# Altium footprint library BGA_QFN_DFN_QFP_Footprints.PcbLib: 6 footprints
Each footprint in its own frame and in the unit in brackets; x right, y up, seen from the top. Pads: shape width x height; smd on the part's side, far side on the other; paste and mask are expansions set on the pad; w line width, h text height; cw(c..) or ccw(c..) is an arc to the next point about the centre after c.
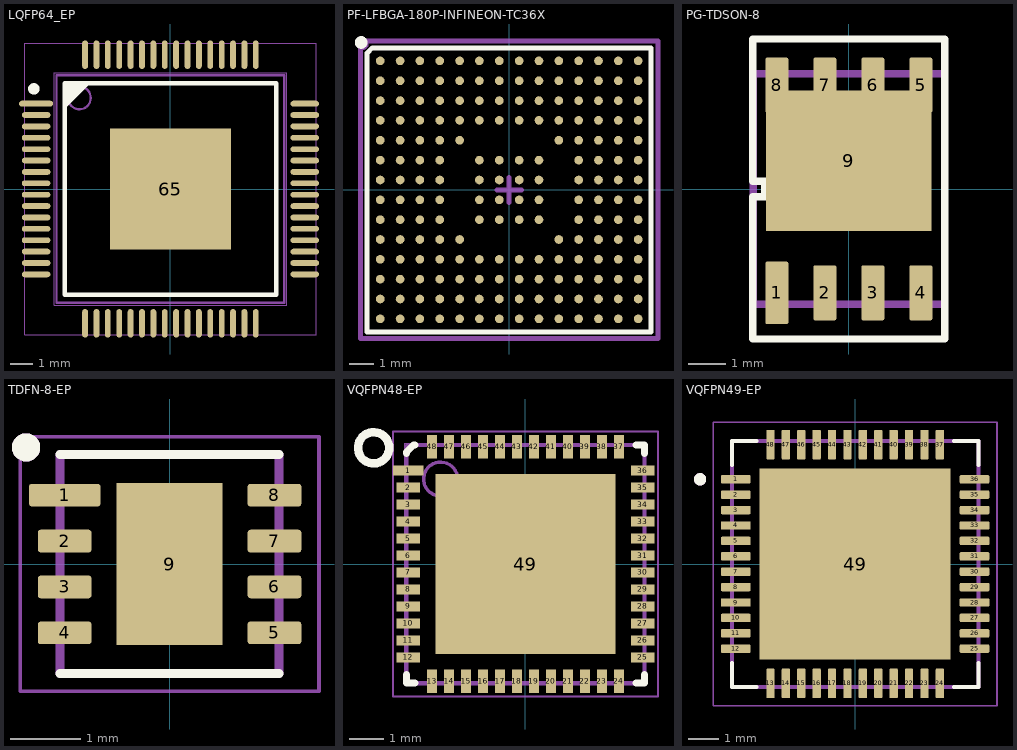
[diagram p0: the footprints below, top view; thin cyan lines are the x and y axes]

## LQFP64_EP [mm]
pads (65):
  oval 1.504x0.254 smd: 1(-5.9,3.75)
  oval 1.25x0.254 smd: 2(-5.9,3.25) 3(-5.9,2.75) 4(-5.9,2.25) 5(-5.9,1.75) 6(-5.9,1.25) 7(-5.9,0.75) 8(-5.9,0.25) 9(-5.9,-0.25) 10(-5.9,-0.75) 11(-5.9,-1.25) 12(-5.9,-1.75) 13(-5.9,-2.25) 14(-5.9,-2.75) 15(-5.9,-3.25) 16(-5.9,-3.75) 33(5.9,-3.75) 34(5.9,-3.25) 35(5.9,-2.75) 36(5.9,-2.25) 37(5.9,-1.75) 38(5.9,-1.25) 39(5.9,-0.75) 40(5.9,-0.25) 41(5.9,0.25) 42(5.9,0.75) 43(5.9,1.25) 44(5.9,1.75) 45(5.9,2.25) 46(5.9,2.75) 47(5.9,3.25) 48(5.9,3.75)
  oval 0.254x1.25 smd: 17(-3.75,-5.9) 18(-3.25,-5.9) 19(-2.75,-5.9) 20(-2.25,-5.9) 21(-1.75,-5.9) 22(-1.25,-5.9) 23(-0.75,-5.9) 24(-0.25,-5.9) 25(0.25,-5.9) 26(0.75,-5.9) 27(1.25,-5.9) 28(1.75,-5.9) 29(2.25,-5.9) 30(2.75,-5.9) 31(3.25,-5.9) 32(3.75,-5.9) 49(3.75,5.9) 50(3.25,5.9) 51(2.75,5.9) 52(2.25,5.9) 53(1.75,5.9) 54(1.25,5.9) 55(0.75,5.9) 56(0.25,5.9) 57(-0.25,5.9) 58(-0.75,5.9) 59(-1.25,5.9) 60(-1.75,5.9) 61(-2.25,5.9) 62(-2.75,5.9) 63(-3.25,5.9) 64(-3.75,5.9)
  rect 5.3x5.3 smd: 65(0,0)
Top Overlay:
  circle w0.25: c-6,4.4 r0.125
  lines w0.2: -4.65,3.65 -3.65,4.65 ; -4.65,3.85 -3.85,4.65 ; -4.65,4.05 -4.05,4.65 ; -4.65,4.25 -4.25,4.65 ; -4.65,4.45 -4.45,4.65 ; -4.65,-4.65 -4.65,4.65 4.65,4.65 4.65,-4.65 -4.65,-4.65
Top Paste:
  region: -2,-2 -2,-0.32 -0.32,-0.32 -0.32,-2
  region: 0.32,-2 0.32,-0.32 2,-0.32 2,-2
  region: -2,0.32 -2,2 -0.32,2 -0.32,0.32
  region: 0.32,0.32 0.32,2 2,2 2,0.32
Top Assembly (Mech3):
  circle w0.1: c-4,4 r0.5
  lines w0.1: -5,-5 -5,5 5,5 5,-5 -5,-5
Mechanical 16:
  circle w0.05: c0,0 r0.35
  lines w0.001: -5.1,-5.1 5.1,-5.1 5.1,5.1 -5.1,5.1 -5.1,-5.1
  lines w0.05: -0.5,0 0.5,0 ; 0,-0.5 0,0.5 ; -6.4,-6.4 6.4,-6.4 6.4,6.4 -6.4,6.4 -6.4,-6.4
3D body "LQFP-64-1EP_10x10mm_P0.5mm_EP6.5x6.5mm.step": height 1.5, standoff 0, extent -6,-6 6,6

## PF-LFBGA-180P-INFINEON-TC36X [mm]
pads (180):
  round 0.35 smd: A1(-5.2,5.2) A2(-4.4,5.2) A3(-3.6,5.2) A4(-2.8,5.2) A5(-2,5.2) A6(-1.2,5.2) A7(-0.4,5.2) A8(0.4,5.2) A9(1.2,5.2) A10(2,5.2) A11(2.8,5.2) A12(3.6,5.2) A13(4.4,5.2) A14(5.2,5.2) B1(-5.2,4.4) B2(-4.4,4.4) B3(-3.6,4.4) B4(-2.8,4.4) B5(-2,4.4) B6(-1.2,4.4) B7(-0.4,4.4) B8(0.4,4.4) B9(1.2,4.4) B10(2,4.4) B11(2.8,4.4) B12(3.6,4.4) B13(4.4,4.4) B14(5.2,4.4) C1(-5.2,3.6) C2(-4.4,3.6) C3(-3.6,3.6) C4(-2.8,3.6) C5(-2,3.6) C6(-1.2,3.6) C7(-0.4,3.6) C8(0.4,3.6) C9(1.2,3.6) C10(2,3.6) C11(2.8,3.6) C12(3.6,3.6) C13(4.4,3.6) C14(5.2,3.6) D1(-5.2,2.8) D2(-4.4,2.8) D3(-3.6,2.8) D4(-2.8,2.8) D5(-2,2.8) D6(-1.2,2.8) D7(-0.4,2.8) D8(0.4,2.8) D9(1.2,2.8) D10(2,2.8) D11(2.8,2.8) D12(3.6,2.8) D13(4.4,2.8) D14(5.2,2.8) E1(-5.2,2) E2(-4.4,2) E3(-3.6,2) E4(-2.8,2) E5(-2,2) E10(2,2) E11(2.8,2) E12(3.6,2) E13(4.4,2) E14(5.2,2) F1(-5.2,1.2) F2(-4.4,1.2) F3(-3.6,1.2) F4(-2.8,1.2) F6(-1.2,1.2) F7(-0.4,1.2) F8(0.4,1.2) F9(1.2,1.2) F11(2.8,1.2) F12(3.6,1.2) F13(4.4,1.2) F14(5.2,1.2) G1(-5.2,0.4) G2(-4.4,0.4) G3(-3.6,0.4) G4(-2.8,0.4) G6(-1.2,0.4) G7(-0.4,0.4) G8(0.4,0.4) G9(1.2,0.4) G11(2.8,0.4) G12(3.6,0.4) G13(4.4,0.4) G14(5.2,0.4) H1(-5.2,-0.4) H2(-4.4,-0.4) H3(-3.6,-0.4) H4(-2.8,-0.4) H6(-1.2,-0.4) H7(-0.4,-0.4) H8(0.4,-0.4) H9(1.2,-0.4) H11(2.8,-0.4) H12(3.6,-0.4) H13(4.4,-0.4) H14(5.2,-0.4) J1(-5.2,-1.2) J2(-4.4,-1.2) J3(-3.6,-1.2) J4(-2.8,-1.2) J6(-1.2,-1.2) J7(-0.4,-1.2) J8(0.4,-1.2) J9(1.2,-1.2) J11(2.8,-1.2) J12(3.6,-1.2) J13(4.4,-1.2) J14(5.2,-1.2) K1(-5.2,-2) K2(-4.4,-2) K3(-3.6,-2) K4(-2.8,-2) K5(-2,-2) K10(2,-2) K11(2.8,-2) K12(3.6,-2) K13(4.4,-2) K14(5.2,-2) L1(-5.2,-2.8) L2(-4.4,-2.8) L3(-3.6,-2.8) L4(-2.8,-2.8) L5(-2,-2.8) L6(-1.2,-2.8) L7(-0.4,-2.8) L8(0.4,-2.8) L9(1.2,-2.8) L10(2,-2.8) L11(2.8,-2.8) L12(3.6,-2.8) L13(4.4,-2.8) L14(5.2,-2.8) M1(-5.2,-3.6) M2(-4.4,-3.6) M3(-3.6,-3.6) M4(-2.8,-3.6) M5(-2,-3.6) M6(-1.2,-3.6) M7(-0.4,-3.6) M8(0.4,-3.6) M9(1.2,-3.6) M10(2,-3.6) M11(2.8,-3.6) M12(3.6,-3.6) M13(4.4,-3.6) M14(5.2,-3.6) N1(-5.2,-4.4) N2(-4.4,-4.4) N3(-3.6,-4.4) N4(-2.8,-4.4) N5(-2,-4.4) N6(-1.2,-4.4) N7(-0.4,-4.4) N8(0.4,-4.4) N9(1.2,-4.4) N10(2,-4.4) N11(2.8,-4.4) N12(3.6,-4.4) N13(4.4,-4.4) N14(5.2,-4.4) P1(-5.2,-5.2) P2(-4.4,-5.2) P3(-3.6,-5.2) P4(-2.8,-5.2) P5(-2,-5.2) P6(-1.2,-5.2) P7(-0.4,-5.2) P8(0.4,-5.2) P9(1.2,-5.2) P10(2,-5.2) P11(2.8,-5.2) P12(3.6,-5.2) P13(4.4,-5.2) P14(5.2,-5.2)
Top Overlay:
  circle w0.254: c-5.969,5.944 r0.127
  lines w0.2: -5.725,-5.725 -5.725,5.52 -5.52,5.725 5.725,5.725 5.725,-5.725 -5.725,-5.725
Top Assembly:
  circle w0.254: c-5.918,5.893 r0.127
Mechanical 16:
  lines w0.2: -0.5,0 0,0 ; 0,-0.5 0,0 ; 0,0.5 0,0 ; 0.5,0 0,0 ; -6,-6 6,-6 6,6 -6,6 -6,-6
3D body "BGA-169_11.0x11.0mm_Layout13x13_P0.8mm_Ball0.5mm_Pad0.4mm_NSMD.step": height 1.4, standoff -0.01, extent -5.5,-5.5 5.5,5.5

## PG-TDSON-8 [mm]
pads (9):
  rrect16% 0.61x1.67 smd: 1(-1.92,-2.77)
  rrect16% 0.61x1.47 smd: 2(-0.64,-2.77) 3(0.64,-2.77) 4(1.92,-2.77) 5(1.92,2.77) 6(0.64,2.77) 7(-0.64,2.77) 8(-1.92,2.77)
  rect 4.41x3.75 smd: 9(0,0.755)
Top Overlay:
  lines w0.2: -2.56,-4 -2.56,-0.211 -2.24,-0.211 -2.24,0.211 -2.56,0.211 -2.56,4 2.56,4 2.56,-4 -2.56,-4
Mechanical 16:
  lines w0.2: -0.5,0 0,0 ; 0,-0.5 0,0 ; 0,0.5 0,0 ; 0.5,0 0,0 ; -2.55,-3.075 -2.55,3.075 2.55,3.075 2.55,-3.075 -2.55,-3.075
3D body "TDSON-8-1.step": height 1.03, standoff 0, extent -2.575,-3.075 2.575,3.075

## TDFN-8-EP [mm]
pads (9):
  rrect25% 1.014x0.32 smd mask+0.103: 1(-1.485,0.975)
  rrect25% 0.76x0.32 smd mask+0.103: 2(-1.485,0.325) 3(-1.485,-0.325) 4(-1.485,-0.975) 5(1.485,-0.975) 6(1.485,-0.325) 7(1.485,0.325) 8(1.485,0.975)
  rect 1.5x2.3 smd mask+0.103: 9(0,0)
Top Overlay:
  circle w0.2: c-2.032,1.651 r0.1
  lines w0.127: -1.55,-1.55 1.55,-1.55 ; -1.55,1.55 1.55,1.55
Top Paste:
  region: -0.47,0.73 0.47,0.73 0.47,-0.73 -0.47,-0.73
Top Assembly (Mech3):
  circle w0.2: c-2.032,1.651 r0.1
  lines w0.127: -1.55,-1.55 1.55,-1.55 1.55,1.55 -1.55,1.55 -1.55,-1.55
Mechanical 16:
  lines w0.05: -2.115,-1.8 2.115,-1.8 2.115,1.8 -2.115,1.8 -2.115,-1.8
3D body "DFN-8-1EP_3x3mm_P0.5mm_EP1.66x2.38mm.step": height 0.77, standoff 0, extent -1.5,-1.49 1.5,1.49

## VQFPN48-EP [mm]
pads (49):
  rrect13% 0.9x0.3 smd paste-0.1 mask-0.1: 1(-3.45,2.75)
  rrect13% 0.7x0.3 smd: 2(-3.45,2.25) 3(-3.45,1.75) 4(-3.45,1.25) 5(-3.45,0.75) 6(-3.45,0.25) 7(-3.45,-0.25) 8(-3.45,-0.75) 9(-3.45,-1.25) 10(-3.45,-1.75) 11(-3.45,-2.25) 12(-3.45,-2.75) 25(3.45,-2.75) 26(3.45,-2.25) 27(3.45,-1.75) 28(3.45,-1.25) 29(3.45,-0.75) 30(3.45,-0.25) 31(3.45,0.25) 32(3.45,0.75) 33(3.45,1.25) 34(3.45,1.75) 35(3.45,2.25) 36(3.45,2.75)
  rrect13% 0.3x0.7 smd: 13(-2.75,-3.45) 14(-2.25,-3.45) 15(-1.75,-3.45) 16(-1.25,-3.45) 17(-0.75,-3.45) 18(-0.25,-3.45) 19(0.25,-3.45) 20(0.75,-3.45) 21(1.25,-3.45) 22(1.75,-3.45) 23(2.25,-3.45) 24(2.75,-3.45) 37(2.75,3.45) 38(2.25,3.45) 39(1.75,3.45) 40(1.25,3.45) 41(0.75,3.45) 42(0.25,3.45) 43(-0.25,3.45) 44(-0.75,3.45) 45(-1.25,3.45) 46(-1.75,3.45) 47(-2.25,3.45) 48(-2.75,3.45)
  rrect1% 5.3x5.3 smd: 49(0,0)
Top Overlay:
  circle w0.25: c-4.47,3.42 r0.46
  lines w0.2: -3.5,-3.25 -3.5,-3.5 -3.25,-3.5 ; -3.5,3.25 -3.5,3.3 -3.3,3.5 -3.25,3.5 ; 3.25,-3.5 3.5,-3.5 3.5,-3.25 ; 3.25,3.5 3.5,3.5 3.5,3.25
Top Paste:
  region: 0.32,0.32 0.32,2 2,2 2,0.32
  region: -2,0.32 -2,2 -0.32,2 -0.32,0.32
  region: 0.32,-2 0.32,-0.32 2,-0.32 2,-2
  region: -2,-2 -2,-0.32 -0.32,-0.32 -0.32,-2
Top Assembly (Mech3):
  circle w0.1: c-2.5,2.5 r0.5
  lines w0.1: -3.5,-3.5 3.5,-3.5 3.5,3.5 -3.5,3.5 -3.5,-3.5
  text "U7" at -0.678,-0.45 h0.75
Mechanical 16:
  circle w0.05: c0,0 r0.35
  lines w0.001: -3.55,-3.55 3.55,-3.55 3.55,3.55 -3.55,3.55 -3.55,-3.55
  lines w0.05: -0.5,0 0.5,0 ; 0,-0.5 0,0.5 ; -3.9,-3.9 3.9,-3.9 3.9,3.9 -3.9,3.9 -3.9,-3.9
3D body "VDFN-48-1EP_7x7mm_P0.5mm.step": height 0.9, standoff 0, extent -3.5,-3.5 3.5,3.5

## VQFPN49-EP [mm]
height 0.9
pads (49):
  rrect25% 0.96x0.27 smd: 1(-3.875,2.75) 2(-3.875,2.25) 3(-3.875,1.75) 4(-3.875,1.25) 5(-3.875,0.75) 6(-3.875,0.25) 7(-3.875,-0.25) 8(-3.875,-0.75) 9(-3.875,-1.25) 10(-3.875,-1.75) 11(-3.875,-2.25) 12(-3.875,-2.75) 25(3.875,-2.75) 26(3.875,-2.25) 27(3.875,-1.75) 28(3.875,-1.25) 29(3.875,-0.75) 30(3.875,-0.25) 31(3.875,0.25) 32(3.875,0.75) 33(3.875,1.25) 34(3.875,1.75) 35(3.875,2.25) 36(3.875,2.75)
  rrect25% 0.27x0.96 smd: 13(-2.75,-3.875) 14(-2.25,-3.875) 15(-1.75,-3.875) 16(-1.25,-3.875) 17(-0.75,-3.875) 18(-0.25,-3.875) 19(0.25,-3.875) 20(0.75,-3.875) 21(1.25,-3.875) 22(1.75,-3.875) 23(2.25,-3.875) 24(2.75,-3.875) 37(2.75,3.875) 38(2.25,3.875) 39(1.75,3.875) 40(1.25,3.875) 41(0.75,3.875) 42(0.25,3.875) 43(-0.25,3.875) 44(-0.75,3.875) 45(-1.25,3.875) 46(-1.75,3.875) 47(-2.25,3.875) 48(-2.75,3.875)
  rect 6.2x6.2 smd paste-2.445: 49(0,0)
Top Overlay:
  circle w0.2: c-5.035,2.75 r0.1
  lines w0.127: -4,-3.205 -4,-4 -3.205,-4 ; -4,3.205 -4,4 -3.205,4 ; 3.205,-4 4,-4 4,-3.205 ; 3.205,4 4,4 4,3.205
Top Paste:
  region: 2.725,-0.655 1.415,-0.655 1.415,0.655 2.725,0.655
  region: 2.725,1.415 1.415,1.415 1.415,2.725 2.725,2.725
  region: -1.415,1.415 -2.725,1.415 -2.725,2.725 -1.415,2.725
  region: -1.415,-0.655 -2.725,-0.655 -2.725,0.655 -1.415,0.655
  region: -1.415,-2.725 -2.725,-2.725 -2.725,-1.415 -1.415,-1.415
  region: 2.725,-2.725 1.415,-2.725 1.415,-1.415 2.725,-1.415
  region: 0.655,-2.725 -0.655,-2.725 -0.655,-1.415 0.655,-1.415
  region: 0.655,1.415 -0.655,1.415 -0.655,2.725 0.655,2.725
Mechanical 13:
  circle w0.2: c-5.035,2.75 r0.1
  lines w0.127: -4,-4 -4,4 4,4 4,-4 -4,-4
Mechanical 15:
  lines w0.05: -4.605,-4.605 -4.605,4.605 4.605,4.605 4.605,-4.605 -4.605,-4.605
3D body "step_temp.STEP": height 0.9, standoff 0, extent -4,-4 4,4